# Altium schematic symbol library PUSH.SchLib: 1 symbol
Pins are listed as number, name and electrical type; pins without a type are passive.

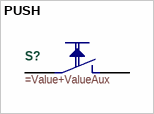
[diagram p0: symbol PUSH]

## PUSH
designator S?
=Description
pins: 1, 2